# Altium footprint library 3FingerRobotV2.PcbLib: 1 footprints
Each footprint in its own frame and in the unit in brackets; x right, y up, seen from the top. Pads: shape width x height; smd on the part's side, far side on the other; paste and mask are expansions set on the pad; w line width, h text height; cw(c..) or ccw(c..) is an arc to the next point about the centre after c.
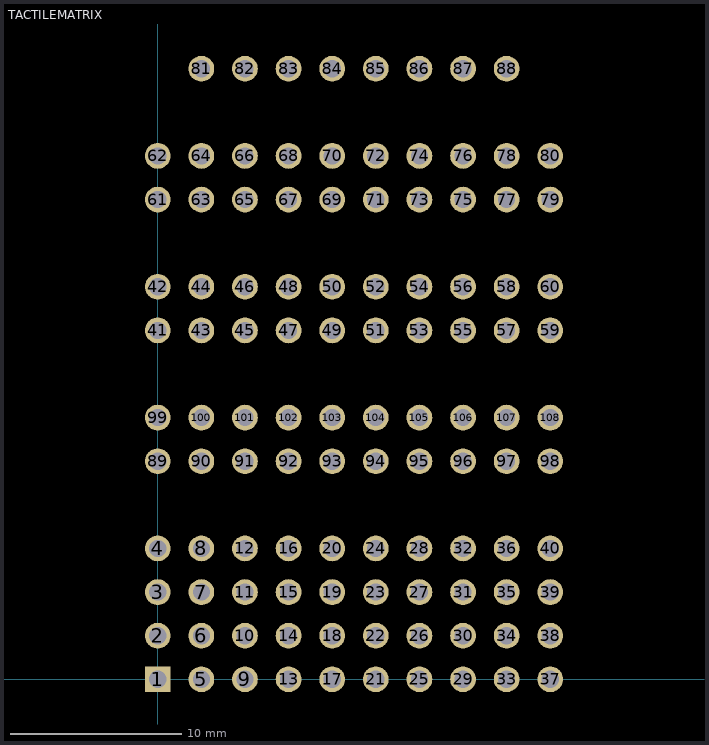
[diagram p0: the footprint, top view; thin cyan lines are the x and y axes]

## TACTILEMATRIX [mm]
pads (108):
  rect 1.5x1.5 hole 1 mask+0.1: 1(0,0)
  round 1.5 hole 1 mask+0.1: 2(0,2.54) 3(0,5.08) 4(0,7.62) 5(2.54,0) 6(2.54,2.54) 7(2.54,5.08) 8(2.54,7.62) 9(5.08,0) 10(5.08,2.54) 11(5.08,5.08) 12(5.08,7.62) 13(7.62,0) 14(7.62,2.54) 15(7.62,5.08) 16(7.62,7.62) 17(10.16,0) 18(10.16,2.54) 19(10.16,5.08) 20(10.16,7.62) 21(12.7,0) 22(12.7,2.54) 23(12.7,5.08) 24(12.7,7.62) 25(15.24,0) 26(15.24,2.54) 27(15.24,5.08) 28(15.24,7.62) 29(17.78,0) 30(17.78,2.54) 31(17.78,5.08) 32(17.78,7.62) 33(20.32,0) 34(20.32,2.54) 35(20.32,5.08) 36(20.32,7.62) 37(22.86,0) 38(22.86,2.54) 39(22.86,5.08) 40(22.86,7.62) 41(0,20.32) 42(0,22.86) 43(2.54,20.32) 44(2.54,22.86) 45(5.08,20.32) 46(5.08,22.86) 47(7.62,20.32) 48(7.62,22.86) 49(10.16,20.32) 50(10.16,22.86) 51(12.7,20.32) 52(12.7,22.86) 53(15.24,20.32) 54(15.24,22.86) 55(17.78,20.32) 56(17.78,22.86) 57(20.32,20.32) 58(20.32,22.86) 59(22.86,20.32) 60(22.86,22.86) 61(0,27.94) 62(0,30.48) 63(2.54,27.94) 64(2.54,30.48) 65(5.08,27.94) 66(5.08,30.48) 67(7.62,27.94) 68(7.62,30.48) 69(10.16,27.94) 70(10.16,30.48) 71(12.7,27.94) 72(12.7,30.48) 73(15.24,27.94) 74(15.24,30.48) 75(17.78,27.94) 76(17.78,30.48) 77(20.32,27.94) 78(20.32,30.48) 79(22.86,27.94) 80(22.86,30.48) 81(2.54,35.56) 82(5.08,35.56) 83(7.62,35.56) 84(10.16,35.56) 85(12.7,35.56) 86(15.24,35.56) 87(17.78,35.56) 88(20.32,35.56) 89(0,12.7) 90(2.54,12.7) 91(5.08,12.7) 92(7.62,12.7) 93(10.16,12.7) 94(12.7,12.7) 95(15.24,12.7) 96(17.78,12.7) 97(20.32,12.7) 98(22.86,12.7) 99(0,15.24) 100(2.54,15.24) 101(5.08,15.24) 102(7.62,15.24) 103(10.16,15.24) 104(12.7,15.24) 105(15.24,15.24) 106(17.78,15.24) 107(20.32,15.24) 108(22.86,15.24)